# Altium integrated library AD DSP 32-Bit.IntLib: 40 symbols (part 6 of 6)
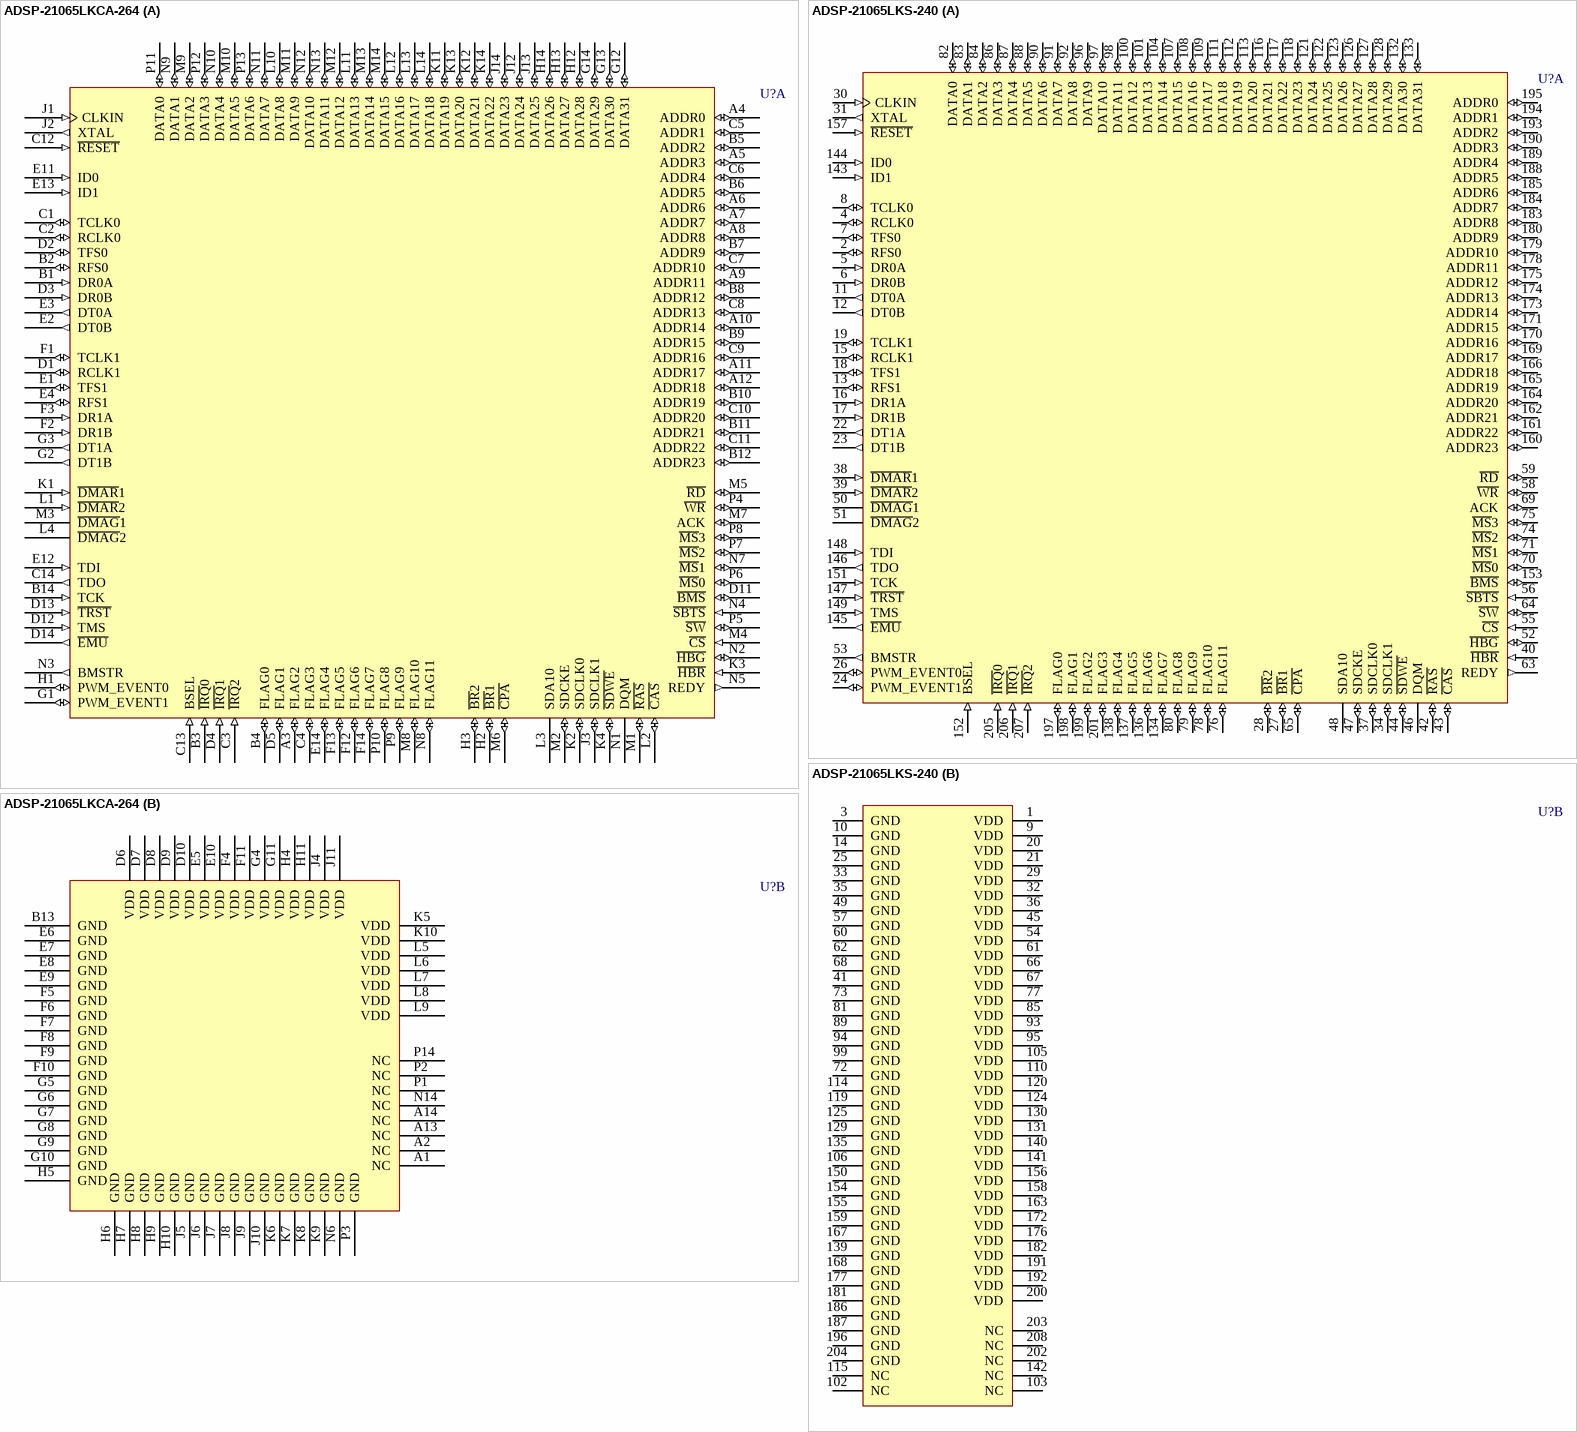
[diagram p47: symbols ADSP-21065LKCA-264 to ADSP-21065LKS-240]

## ADSP-21065LKS-240
designator U?
Low-Cost SHARC, 60 MHZ, 180 MFLOPS, 3.3V, Floating Point; Published: 24-Aug-2001; LatestRevisionDate: 13-Apr-2006; LatestRevisionNote: IPC-7351 Footprint Added.; DatasheetVersion: 2000; PackageVersion: 2000; PackageReference: MQFP208; Publisher: Altium Limited; PackageDescription: 208-Pin Shrink Quad Flat Pack 0.5 mm Pitch; ComponentLink1Description: Manufacturer Link; ComponentLink1URL: http://www.analog.com/; ComponentLink2Description: Datasheet; ComponentLink2URL: http://www.analog.com/UploadedFiles/Data_Sheets/3587558086188ADSP-21065L_c.pdf
footprint MQFP208_N (Shrink QFP, 208-Leads, Body 28x28mm, Pitch 0.5mm, IPC Medium Density)
footprint MQFP208_L (Shrink QFP, 208-Leads, Body 28x28mm, Pitch 0.5mm, IPC High Density)
footprint MQFP208_M (Shrink QFP, 208-Leads, Body 28x28mm, Pitch 0.5mm, IPC Low Density)
3D model 21065L-MQFP208 (208-Pin Shrink Quad Flat Pack 0.5 mm Pitch)
part A pins: 2 RFS0 (io), 4 RCLK0 (io), 5 DR0A (in), 6 DR0B (in), 7 TFS0 (io), 8 TCLK0 (io), 11 DT0A (out), 12 DT0B (out), 13 RFS1 (io), 15 RCLK1 (io), 16 DR1A (in), 17 DR1B (in), 18 TFS1 (io), 19 TCLK1 (io), 22 DT1A (out), 23 DT1B (out), 24 PWM_EVENT1 (io), 26 PWM_EVENT0 (io), 27 ~{BR}1 (io), 28 ~{BR}2 (io), 30 CLKIN (in), 31 XTAL (out), 34 SDCLK1 (io), 37 SDCLK0 (io), 38 ~{DMAR}1 (in), 39 ~{DMAR}2 (in), 40 ~{HBR} (in), 42 ~{RAS} (io), 43 ~{CAS} (io), 44 ~{SDWE} (io), 46 DQM (hiz), 47 SDCKE (io), 48 SDA10 (hiz), 50 ~{DMAG}1 (hiz), 51 ~{DMAG}2 (hiz), 52 ~{HBG} (io), 53 BMSTR (out), 55 ~{CS} (in), 56 ~{SBTS} (in), 58 ~{WR} (io), 59 ~{RD} (io), 63 REDY (out), 64 ~{SW} (io), 65 ~{CPA} (io), 69 ACK (io), 70 ~{MS}0 (io), 71 ~{MS}1 (io), 74 ~{MS}2 (io), 75 ~{MS}3 (io), 76 FLAG11 (io), 78 FLAG10 (io), 79 FLAG9 (io), 80 FLAG8 (io), 82 DATA0 (io), 83 DATA1 (io), 84 DATA2 (io), 86 DATA3 (io), 87 DATA4 (io), 88 DATA5 (io), 90 DATA6 (io), 91 DATA7 (io), 92 DATA8 (io), 96 DATA9 (io), 97 DATA10 (io), 98 DATA11 (io), 100 DATA12 (io), 101 DATA13 (io), 104 DATA14 (io), 107 DATA15 (io), 108 DATA16 (io), 109 DATA17 (io), 111 DATA18 (io), 112 DATA19 (io), 113 DATA20 (io), 116 DATA21 (io), 117 DATA22 (io), 118 DATA23 (io), 121 DATA24 (io), 122 DATA25 (io), 123 DATA26 (io), 126 DATA27 (io), 127 DATA28 (io), 128 DATA29 (io), 132 DATA30 (io), 133 DATA31 (io), 134 FLAG7 (io), 136 FLAG6 (io), 137 FLAG5 (io), 138 FLAG4 (io), 143 ID1 (in), 144 ID0 (in), 145 ~{EMU} (out), 146 TDO (out), 147 ~{TRST} (in), 148 TDI (in), 149 TMS (in), 151 TCK (in), 152 BSEL (in), 153 ~{BMS} (io), 157 ~{RESET} (in), 160 ADDR23 (io), 161 ADDR22 (io), 162 ADDR21 (io), 164 ADDR20 (io), 165 ADDR19 (io), 166 ADDR18 (io), 169 ADDR17 (io), 170 ADDR16 (io), 171 ADDR15 (io), 173 ADDR14 (io), 174 ADDR13 (io), 175 ADDR12 (io), 178 ADDR11 (io), 179 ADDR10 (io), 180 ADDR9 (io), 183 ADDR8 (io), 184 ADDR7 (io), 185 ADDR6 (io), 188 ADDR5 (io), 189 ADDR4 (io), 190 ADDR3 (io), 193 ADDR2 (io), 194 ADDR1 (io), 195 ADDR0 (io), 197 FLAG0 (io), 198 FLAG1 (io), 199 FLAG2 (io), 201 FLAG3 (io), 205 ~{IRQ}0 (in), 206 ~{IRQ}1 (in), 207 ~{IRQ}2 (in)
part B pins: 1 VDD (power), 3 GND (power), 9 VDD (power), 10 GND (power), 14 GND (power), 20 VDD (power), 21 VDD (power), 25 GND (power), 29 VDD (power), 32 VDD (power), 33 GND (power), 35 GND (power), 36 VDD (power), 41 GND (power), 45 VDD (power), 49 GND (power), 54 VDD (power), 57 GND (power), 60 GND (power), 61 VDD (power), 62 GND (power), 66 VDD (power), 67 VDD (power), 68 GND (power), 72 GND (power), 73 GND (power), 77 VDD (power), 81 GND (power), 85 VDD (power), 89 GND (power), 93 VDD (power), 94 GND (power), 95 VDD (power), 99 GND (power), 102 NC, 103 NC, 105 VDD (power), 106 GND (power), 110 VDD (power), 114 GND (power), 115 NC, 119 GND (power), 120 VDD (power), 124 VDD (power), 125 GND (power), 129 GND (power), 130 VDD (power), 131 VDD (power), 135 GND (power), 139 GND (power), 140 VDD (power), 141 VDD (power), 142 NC, 150 GND (power), 154 GND (power), 155 GND (power), 156 VDD (power), 158 VDD (power), 159 GND (power), 163 VDD (power), 167 GND (power), 168 GND (power), 172 VDD (power), 176 VDD (power), 177 GND (power), 181 GND (power), 182 VDD (power), 186 GND (power), 187 GND (power), 191 VDD (power), 192 VDD (power), 196 GND (power), 200 VDD (power), 202 NC, 203 NC, 204 GND (power), 208 NC

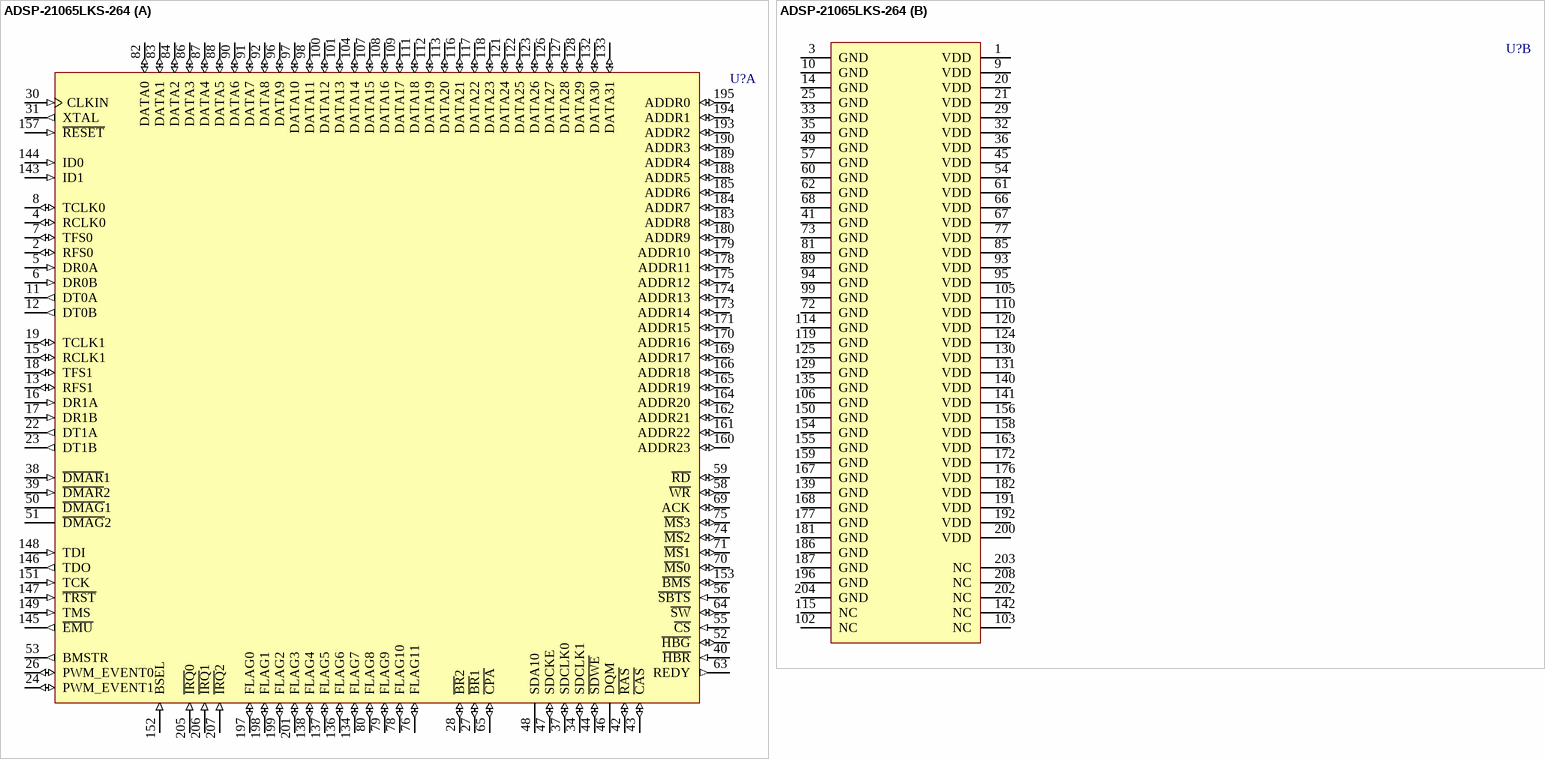
[diagram p40: symbol ADSP-21065LKS-264]

## ADSP-21065LKS-264
designator U?
Low-Cost SHARC, 60 MHZ, 180 MFLOPS, 3.3V, Floating Point; Published: 24-Aug-2001; LatestRevisionDate: 13-Apr-2006; LatestRevisionNote: IPC-7351 Footprint Added.; DatasheetVersion: 2000; PackageVersion: 2000; PackageReference: MQFP208; Publisher: Altium Limited; PackageDescription: 208-Pin Shrink Quad Flat Pack 0.5 mm Pitch; ComponentLink1Description: Manufacturer Link; ComponentLink1URL: http://www.analog.com/; ComponentLink2Description: Datasheet; ComponentLink2URL: http://www.analog.com/UploadedFiles/Data_Sheets/3587558086188ADSP-21065L_c.pdf
footprint MQFP208_N (Shrink QFP, 208-Leads, Body 28x28mm, Pitch 0.5mm, IPC Medium Density)
footprint MQFP208_L (Shrink QFP, 208-Leads, Body 28x28mm, Pitch 0.5mm, IPC High Density)
footprint MQFP208_M (Shrink QFP, 208-Leads, Body 28x28mm, Pitch 0.5mm, IPC Low Density)
3D model 21065L-MQFP208 (208-Pin Shrink Quad Flat Pack 0.5 mm Pitch)
part A pins: 2 RFS0 (io), 4 RCLK0 (io), 5 DR0A (in), 6 DR0B (in), 7 TFS0 (io), 8 TCLK0 (io), 11 DT0A (out), 12 DT0B (out), 13 RFS1 (io), 15 RCLK1 (io), 16 DR1A (in), 17 DR1B (in), 18 TFS1 (io), 19 TCLK1 (io), 22 DT1A (out), 23 DT1B (out), 24 PWM_EVENT1 (io), 26 PWM_EVENT0 (io), 27 ~{BR}1 (io), 28 ~{BR}2 (io), 30 CLKIN (in), 31 XTAL (out), 34 SDCLK1 (io), 37 SDCLK0 (io), 38 ~{DMAR}1 (in), 39 ~{DMAR}2 (in), 40 ~{HBR} (in), 42 ~{RAS} (io), 43 ~{CAS} (io), 44 ~{SDWE} (io), 46 DQM (hiz), 47 SDCKE (io), 48 SDA10 (hiz), 50 ~{DMAG}1 (hiz), 51 ~{DMAG}2 (hiz), 52 ~{HBG} (io), 53 BMSTR (out), 55 ~{CS} (in), 56 ~{SBTS} (in), 58 ~{WR} (io), 59 ~{RD} (io), 63 REDY (out), 64 ~{SW} (io), 65 ~{CPA} (io), 69 ACK (io), 70 ~{MS}0 (io), 71 ~{MS}1 (io), 74 ~{MS}2 (io), 75 ~{MS}3 (io), 76 FLAG11 (io), 78 FLAG10 (io), 79 FLAG9 (io), 80 FLAG8 (io), 82 DATA0 (io), 83 DATA1 (io), 84 DATA2 (io), 86 DATA3 (io), 87 DATA4 (io), 88 DATA5 (io), 90 DATA6 (io), 91 DATA7 (io), 92 DATA8 (io), 96 DATA9 (io), 97 DATA10 (io), 98 DATA11 (io), 100 DATA12 (io), 101 DATA13 (io), 104 DATA14 (io), 107 DATA15 (io), 108 DATA16 (io), 109 DATA17 (io), 111 DATA18 (io), 112 DATA19 (io), 113 DATA20 (io), 116 DATA21 (io), 117 DATA22 (io), 118 DATA23 (io), 121 DATA24 (io), 122 DATA25 (io), 123 DATA26 (io), 126 DATA27 (io), 127 DATA28 (io), 128 DATA29 (io), 132 DATA30 (io), 133 DATA31 (io), 134 FLAG7 (io), 136 FLAG6 (io), 137 FLAG5 (io), 138 FLAG4 (io), 143 ID1 (in), 144 ID0 (in), 145 ~{EMU} (out), 146 TDO (out), 147 ~{TRST} (in), 148 TDI (in), 149 TMS (in), 151 TCK (in), 152 BSEL (in), 153 ~{BMS} (io), 157 ~{RESET} (in), 160 ADDR23 (io), 161 ADDR22 (io), 162 ADDR21 (io), 164 ADDR20 (io), 165 ADDR19 (io), 166 ADDR18 (io), 169 ADDR17 (io), 170 ADDR16 (io), 171 ADDR15 (io), 173 ADDR14 (io), 174 ADDR13 (io), 175 ADDR12 (io), 178 ADDR11 (io), 179 ADDR10 (io), 180 ADDR9 (io), 183 ADDR8 (io), 184 ADDR7 (io), 185 ADDR6 (io), 188 ADDR5 (io), 189 ADDR4 (io), 190 ADDR3 (io), 193 ADDR2 (io), 194 ADDR1 (io), 195 ADDR0 (io), 197 FLAG0 (io), 198 FLAG1 (io), 199 FLAG2 (io), 201 FLAG3 (io), 205 ~{IRQ}0 (in), 206 ~{IRQ}1 (in), 207 ~{IRQ}2 (in)
part B pins: 1 VDD (power), 3 GND (power), 9 VDD (power), 10 GND (power), 14 GND (power), 20 VDD (power), 21 VDD (power), 25 GND (power), 29 VDD (power), 32 VDD (power), 33 GND (power), 35 GND (power), 36 VDD (power), 41 GND (power), 45 VDD (power), 49 GND (power), 54 VDD (power), 57 GND (power), 60 GND (power), 61 VDD (power), 62 GND (power), 66 VDD (power), 67 VDD (power), 68 GND (power), 72 GND (power), 73 GND (power), 77 VDD (power), 81 GND (power), 85 VDD (power), 89 GND (power), 93 VDD (power), 94 GND (power), 95 VDD (power), 99 GND (power), 102 NC, 103 NC, 105 VDD (power), 106 GND (power), 110 VDD (power), 114 GND (power), 115 NC, 119 GND (power), 120 VDD (power), 124 VDD (power), 125 GND (power), 129 GND (power), 130 VDD (power), 131 VDD (power), 135 GND (power), 139 GND (power), 140 VDD (power), 141 VDD (power), 142 NC, 150 GND (power), 154 GND (power), 155 GND (power), 156 VDD (power), 158 VDD (power), 159 GND (power), 163 VDD (power), 167 GND (power), 168 GND (power), 172 VDD (power), 176 VDD (power), 177 GND (power), 181 GND (power), 182 VDD (power), 186 GND (power), 187 GND (power), 191 VDD (power), 192 VDD (power), 196 GND (power), 200 VDD (power), 202 NC, 203 NC, 204 GND (power), 208 NC

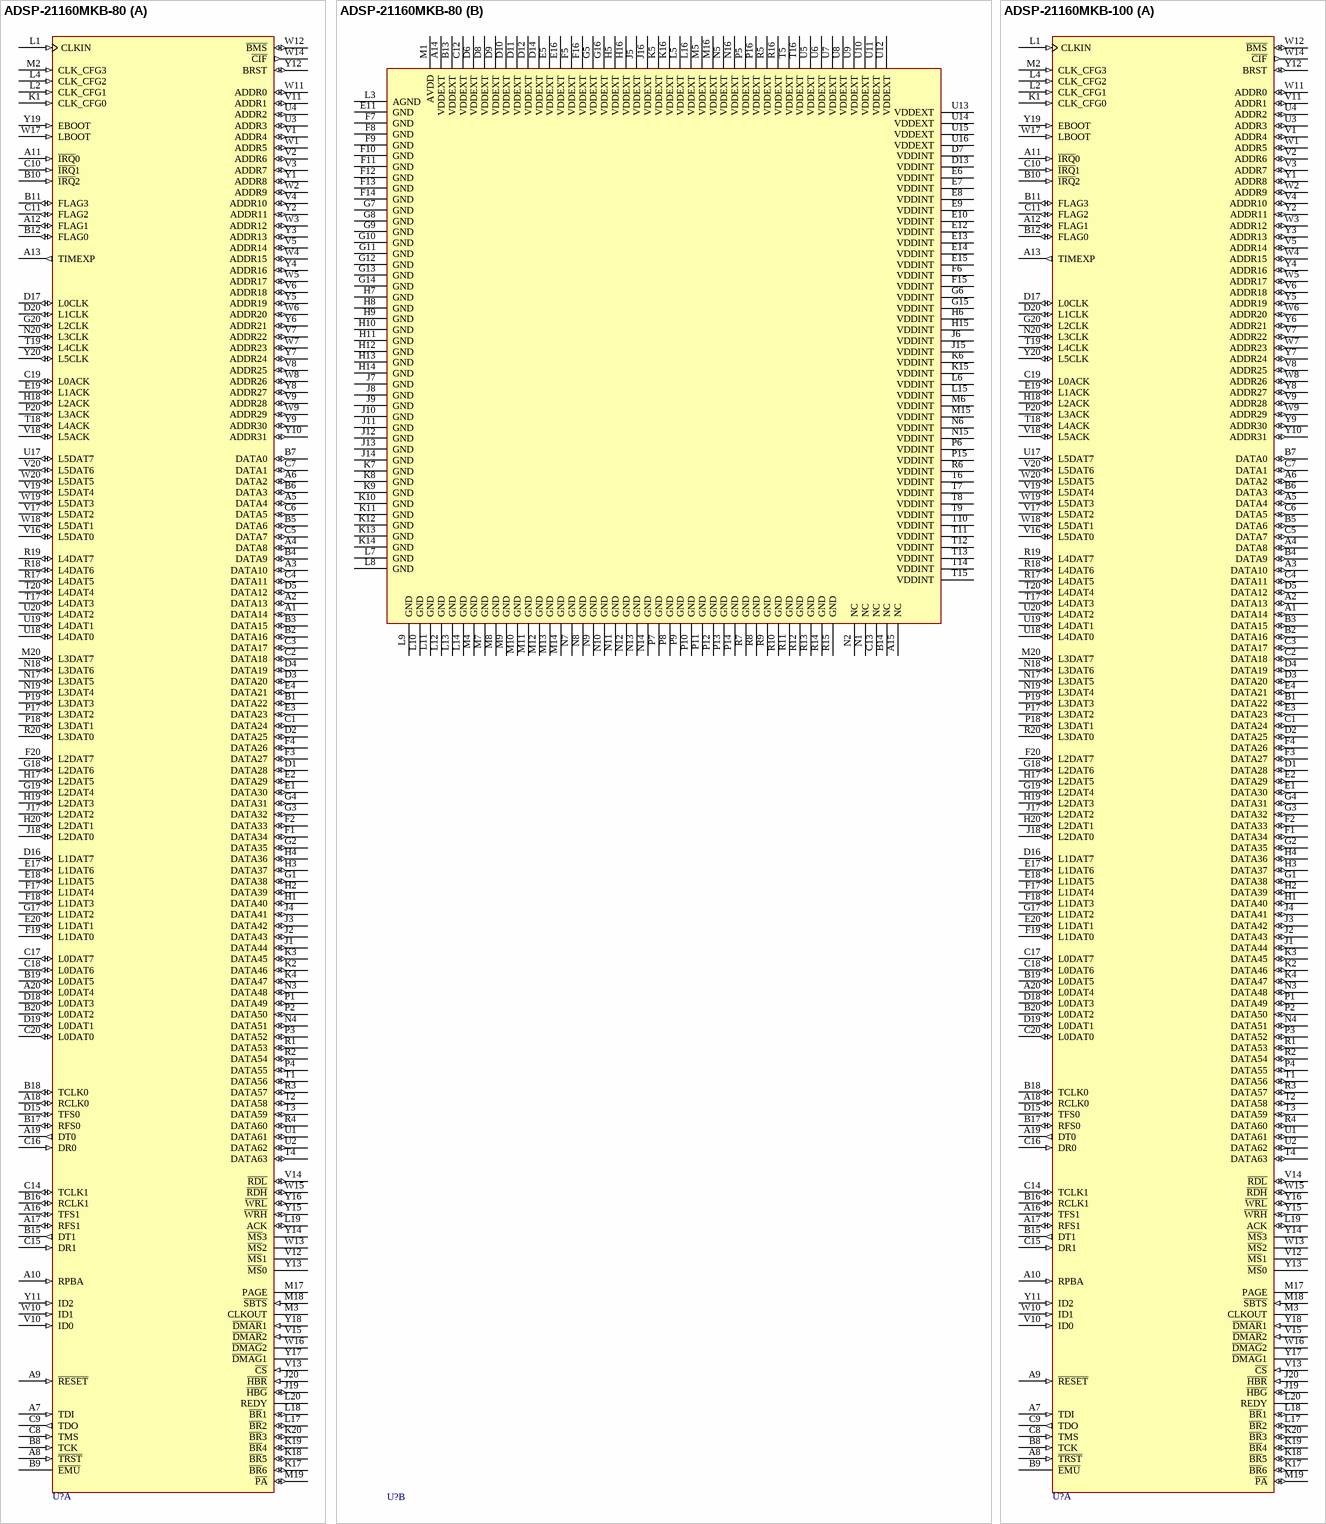
[diagram p41: symbols ADSP-21160MKB-80 to ADSP-21160MKB-100]

## ADSP-21160MKB-80
designator U?
SHARC, 100 MHZ, 600 MFLOPS, 3.3V I/O, 2.5V Core, Floating point; Published: 24-Aug-2001; LatestRevisionDate: 13-Apr-2006; LatestRevisionNote: IPC-7351 Footprint Added.; DatasheetVersion: 1998; PackageVersion: May-1999; PackageReference: PBGA400; Publisher: Altium Limited; PackageDescription: 400-Ball Ball Grid Array 1.27 mm Pitch; Code_IPC: BGA127P20X20-400; ComponentLink1Description: Manufacturer Link; ComponentLink1URL: http://www.analog.com/; ComponentLink2Description: Datasheet; ComponentLink2URL: http://www.analog.com/UploadedFiles/Data_Sheets/16366708303253250028645ADSP_21160M_0.pdf
footprint PBGA400 (BGA, 400-Leads, Body 27x27mm, Pitch 1.27mm)
3D model 21160M-PBGA400 (400-Ball Ball Grid Array 1.27 mm Pitch)
part A pins: A1 DATA14 (io), A2 DATA13 (io), A3 DATA10 (io), A4 DATA8 (io), A5 DATA4 (io), A6 DATA2 (io), A7 TDI (in), A8 ~{TRST} (in), A9 ~{RESET} (in), A10 RPBA (in), A11 ~{IRQ}0 (in), A12 FLAG1 (io), A13 TIMEXP (out), A16 TFS1 (io), A17 RFS1 (io), A18 RCLK0 (io), A19 DT0 (out), A20 L0DAT4 (io), B1 DATA22 (io), B2 DATA16 (io), B3 DATA15 (io), B4 DATA9 (io), B5 DATA6 (io), B6 DATA3 (io), B7 DATA0 (io), B8 TCK (in), B9 ~{EMU} (oc), B10 ~{IRQ}2 (in), B11 FLAG3 (io), B12 FLAG0 (io), B15 DT1 (out), B16 RCLK1 (io), B17 RFS0 (io), B18 TCLK0 (io), B19 L0DAT5 (io), B20 L0DAT2 (io), C1 DATA24 (io), C2 DATA18 (io), C3 DATA17 (io), C4 DATA11 (io), C5 DATA7 (io), C6 DATA5 (io), C7 DATA1 (io), C8 TMS (in), C9 TDO (out), C10 ~{IRQ}1 (in), C11 FLAG2 (io), C14 TCLK1 (io), C15 DR1 (in), C16 DR0 (in), C17 L0DAT7 (io), C18 L0DAT6 (io), C19 L0ACK (io), C20 L0DAT0 (io), D1 DATA28 (io), D2 DATA25 (io), D3 DATA20 (io), D4 DATA19 (io), D5 DATA12 (io), D15 TFS0 (io), D16 L1DAT7 (io), D17 L0CLK (io), D18 L0DAT3 (io), D19 L0DAT1 (io), D20 L1CLK (io), E1 DATA30 (io), E2 DATA29 (io), E3 DATA23 (io), E4 DATA21 (io), E17 L1DAT6 (io), E18 L1DAT5 (io), E19 L1ACK (io), E20 L1DAT1 (io), F1 DATA34 (io), F2 DATA33 (io), F3 DATA27 (io), F4 DATA26 (io), F17 L1DAT4 (io), F18 L1DAT3 (io), F19 L1DAT0 (io), F20 L2DAT7 (io), G1 DATA38 (io), G2 DATA35 (io), G3 DATA32 (io), G4 DATA31 (io), G17 L1DAT2 (io), G18 L2DAT6 (io), G19 L2DAT4 (io), G20 L2CLK (io), H1 DATA40 (io), H2 DATA39 (io), H3 DATA37 (io), H4 DATA36 (io), H17 L2DAT5 (io), H18 L2ACK (io), H19 L2DAT3 (io), H20 L2DAT1 (io), J1 DATA44 (io), J2 DATA43 (io), J3 DATA42 (io), J4 DATA41 (io), J17 L2DAT2 (io), J18 L2DAT0 (io), J19 ~{HBG} (io), J20 ~{HBR} (in), K1 CLK_CFG0 (in), K2 DATA46 (io), K3 DATA45 (io), K4 DATA47 (io), K17 ~{BR}6 (io), K18 ~{BR}5 (io), K19 ~{BR}4 (io), K20 ~{BR}3 (io), L1 CLKIN (in), L2 CLK_CFG1 (in), L4 CLK_CFG2 (in), L17 ~{BR}2 (io), L18 ~{BR}1 (io), L19 ACK (io), L20 REDY (oc), M2 CLK_CFG3 (in), M3 CLKOUT (hiz), M17 PAGE (hiz), M18 ~{SBTS} (in), M19 ~{PA} (io), M20 L3DAT7 (io), N3 DATA48 (io), N4 DATA51 (io), N17 L3DAT5 (io), N18 L3DAT6 (io), N19 L3DAT4 (io), N20 L3CLK (io), P1 DATA49 (io), P2 DATA50 (io), P3 DATA52 (io), P4 DATA55 (io), P17 L3DAT2 (io), P18 L3DAT1 (io), P19 L3DAT3 (io), P20 L3ACK (io), R1 DATA53 (io), R2 DATA54 (io), R3 DATA57 (io), R4 DATA60 (io), R17 L4DAT5 (io), R18 L4DAT6 (io), R19 L4DAT7 (io), R20 L3DAT0 (io), T1 DATA56 (io), T2 DATA58 (io), T3 DATA59 (io), T4 DATA63 (io), T17 L4DAT3 (io), T18 L4ACK (io), T19 L4CLK (io), T20 L4DAT4 (io), U1 DATA61 (io), U2 DATA62 (io), U3 ADDR3 (io), U4 ADDR2 (io), U17 L5DAT7 (io), U18 L4DAT0 (io), U19 L4DAT1 (io), U20 L4DAT2 (io), V1 ADDR4 (io), V2 ADDR6 (io), V3 ADDR7 (io), V4 ADDR10 (io), V5 ADDR14 (io), V6 ADDR18 (io), V7 ADDR22 (io), V8 ADDR25 (io), V9 ADDR28 (io), V10 ID0 (in), V11 ADDR1 (io), V12 ~{MS}1 (hiz), V13 ~{CS} (in), V14 ~{RDL} (io), V15 ~{DMAR}2 (in), V16 L5DAT0 (io), V17 L5DAT2 (io), V18 L5ACK (io), V19 L5DAT4 (io), V20 L5DAT6 (io), W1 ADDR5 (io), W2 ADDR9 (io), W3 ADDR12 (io), W4 ADDR15 (io), W5 ADDR17 (io), W6 ADDR20 (io), W7 ADDR23 (io), W8 ADDR26 (io), W9 ADDR29 (io), W10 ID1 (in), W11 ADDR0 (io), W12 ~{BMS} (io), W13 ~{MS}2 (hiz), W14 ~{CIF} (out), W15 ~{RDH} (io), W16 ~{DMAG}2 (hiz), W17 LBOOT (in), W18 L5DAT1 (io), W19 L5DAT3 (io), W20 L5DAT5 (io), Y1 ADDR8 (io), Y2 ADDR11 (io), Y3 ADDR13 (io), Y4 ADDR16 (io), Y5 ADDR19 (io), Y6 ADDR21 (io), Y7 ADDR24 (io), Y8 ADDR27 (io), Y9 ADDR30 (io), Y10 ADDR31 (io), Y11 ID2 (in), Y12 BRST (io), Y13 ~{MS}0 (hiz), Y14 ~{MS}3 (hiz), Y15 ~{WRH} (io), Y16 ~{WRL} (io), Y17 ~{DMAG}1 (hiz), Y18 ~{DMAR}1 (in), Y19 EBOOT (in), Y20 L5CLK (io)
part B pins: A14 VDDEXT (power), A15 NC, B13 VDDEXT (power), B14 NC, C12 VDDEXT (power), C13 NC, D6 VDDEXT (power), D7 VDDINT (power), D8 VDDEXT (power), D9 VDDEXT (power), D10 VDDEXT (power), D11 VDDEXT (power), D12 VDDEXT (power), D13 VDDINT (power), D14 VDDEXT (power), E5 VDDEXT (power), E6 VDDINT (power), E7 VDDINT (power), E8 VDDINT (power), E9 VDDINT (power), E10 VDDINT (power), E11 GND (power), E12 VDDINT (power), E13 VDDINT (power), E14 VDDINT (power), E15 VDDINT (power), E16 VDDEXT (power), F5 VDDEXT (power), F6 VDDINT (power), F7 GND (power), F8 GND (power), F9 GND (power), F10 GND (power), F11 GND (power), F12 GND (power), F13 GND (power), F14 GND (power), F15 VDDINT (power), F16 VDDEXT (power), G5 VDDEXT (power), G6 VDDINT (power), G7 GND (power), G8 GND (power), G9 GND (power), G10 GND (power), G11 GND (power), G12 GND (power), G13 GND (power), G14 GND (power), G15 VDDINT (power), G16 VDDEXT (power), H5 VDDEXT (power), H6 VDDINT (power), H7 GND (power), H8 GND (power), H9 GND (power), H10 GND (power), H11 GND (power), H12 GND (power), H13 GND (power), H14 GND (power), H15 VDDINT (power), H16 VDDEXT (power), J5 VDDEXT (power), J6 VDDINT (power), J7 GND (power), J8 GND (power), J9 GND (power), J10 GND (power), J11 GND (power), J12 GND (power), J13 GND (power), J14 GND (power), J15 VDDINT (power), J16 VDDEXT (power), K5 VDDEXT (power), K6 VDDINT (power), K7 GND (power), K8 GND (power), K9 GND (power), K10 GND (power), K11 GND (power), K12 GND (power), K13 GND (power), K14 GND (power), K15 VDDINT (power), K16 VDDEXT (power), L3 AGND (power), L5 VDDEXT (power), L6 VDDINT (power), L7 GND (power), L8 GND (power), L9 GND (power), L10 GND (power), L11 GND (power), L12 GND (power), L13 GND (power), L14 GND (power), L15 VDDINT (power), L16 VDDEXT (power), M1 AVDD (power), M4 GND (power), M5 VDDEXT (power), M6 VDDINT (power), M7 GND (power), M8 GND (power), M9 GND (power), M10 GND (power), M11 GND (power), M12 GND (power), M13 GND (power), M14 GND (power), M15 VDDINT (power), M16 VDDEXT (power), N1 NC, N2 NC, N5 VDDEXT (power), N6 VDDINT (power), N7 GND (power), N8 GND (power), N9 GND (power), N10 GND (power), N11 GND (power), N12 GND (power), N13 GND (power), N14 GND (power), N15 VDDINT (power), N16 VDDEXT (power), P5 VDDEXT (power), P6 VDDINT (power), P7 GND (power), P8 GND (power), P9 GND (power), P10 GND (power), P11 GND (power), P12 GND (power), P13 GND (power), P14 GND (power), P15 VDDINT (power), P16 VDDEXT (power), R5 VDDEXT (power), R6 VDDINT (power), R7 GND (power), R8 GND (power), R9 GND (power), R10 GND (power), R11 GND (power), R12 GND (power), R13 GND (power), R14 GND (power), R15 GND (power), R16 VDDEXT (power), T5 VDDEXT (power), T6 VDDINT (power), T7 VDDINT (power), T8 VDDINT (power), T9 VDDINT (power), T10 VDDINT (power), T11 VDDINT (power), T12 VDDINT (power), T13 VDDINT (power), T14 VDDINT (power), T15 VDDINT (power), T16 VDDEXT (power), U5 VDDEXT (power), U6 VDDEXT (power), U7 VDDEXT (power), U8 VDDEXT (power), U9 VDDEXT (power), U10 VDDEXT (power), U11 VDDEXT (power), U12 VDDEXT (power), U13 VDDEXT (power), U14 VDDEXT (power), U15 VDDEXT (power), U16 VDDEXT (power)

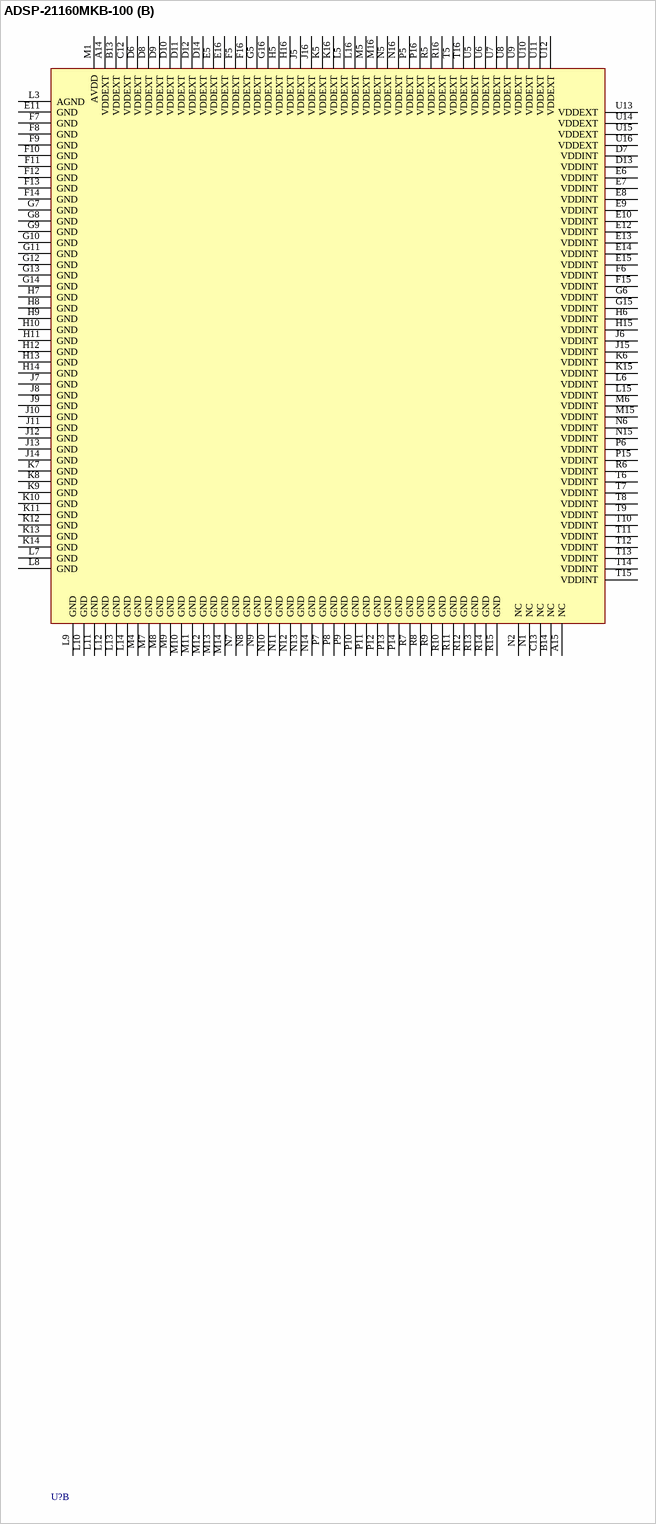
[diagram p42: symbol ADSP-21160MKB-100]

## ADSP-21160MKB-100
designator U?
SHARC, 100 MHZ, 600 MFLOPS, 3.3V I/O, 2.5V Core, Floating point; Published: 24-Aug-2001; LatestRevisionDate: 13-Apr-2006; LatestRevisionNote: IPC-7351 Footprint Added.; DatasheetVersion: 1998; PackageVersion: May-1999; PackageReference: PBGA400; Publisher: Altium Limited; PackageDescription: 400-Ball Ball Grid Array 1.27 mm Pitch; Code_IPC: BGA127P20X20-400; ComponentLink1Description: Manufacturer Link; ComponentLink1URL: http://www.analog.com/; ComponentLink2Description: Datasheet; ComponentLink2URL: http://www.analog.com/UploadedFiles/Data_Sheets/16366708303253250028645ADSP_21160M_0.pdf
footprint PBGA400 (BGA, 400-Leads, Body 27x27mm, Pitch 1.27mm)
3D model 21160M-PBGA400 (400-Ball Ball Grid Array 1.27 mm Pitch)
part A pins: A1 DATA14 (io), A2 DATA13 (io), A3 DATA10 (io), A4 DATA8 (io), A5 DATA4 (io), A6 DATA2 (io), A7 TDI (in), A8 ~{TRST} (in), A9 ~{RESET} (in), A10 RPBA (in), A11 ~{IRQ}0 (in), A12 FLAG1 (io), A13 TIMEXP (out), A16 TFS1 (io), A17 RFS1 (io), A18 RCLK0 (io), A19 DT0 (out), A20 L0DAT4 (io), B1 DATA22 (io), B2 DATA16 (io), B3 DATA15 (io), B4 DATA9 (io), B5 DATA6 (io), B6 DATA3 (io), B7 DATA0 (io), B8 TCK (in), B9 ~{EMU} (oc), B10 ~{IRQ}2 (in), B11 FLAG3 (io), B12 FLAG0 (io), B15 DT1 (out), B16 RCLK1 (io), B17 RFS0 (io), B18 TCLK0 (io), B19 L0DAT5 (io), B20 L0DAT2 (io), C1 DATA24 (io), C2 DATA18 (io), C3 DATA17 (io), C4 DATA11 (io), C5 DATA7 (io), C6 DATA5 (io), C7 DATA1 (io), C8 TMS (in), C9 TDO (out), C10 ~{IRQ}1 (in), C11 FLAG2 (io), C14 TCLK1 (io), C15 DR1 (in), C16 DR0 (in), C17 L0DAT7 (io), C18 L0DAT6 (io), C19 L0ACK (io), C20 L0DAT0 (io), D1 DATA28 (io), D2 DATA25 (io), D3 DATA20 (io), D4 DATA19 (io), D5 DATA12 (io), D15 TFS0 (io), D16 L1DAT7 (io), D17 L0CLK (io), D18 L0DAT3 (io), D19 L0DAT1 (io), D20 L1CLK (io), E1 DATA30 (io), E2 DATA29 (io), E3 DATA23 (io), E4 DATA21 (io), E17 L1DAT6 (io), E18 L1DAT5 (io), E19 L1ACK (io), E20 L1DAT1 (io), F1 DATA34 (io), F2 DATA33 (io), F3 DATA27 (io), F4 DATA26 (io), F17 L1DAT4 (io), F18 L1DAT3 (io), F19 L1DAT0 (io), F20 L2DAT7 (io), G1 DATA38 (io), G2 DATA35 (io), G3 DATA32 (io), G4 DATA31 (io), G17 L1DAT2 (io), G18 L2DAT6 (io), G19 L2DAT4 (io), G20 L2CLK (io), H1 DATA40 (io), H2 DATA39 (io), H3 DATA37 (io), H4 DATA36 (io), H17 L2DAT5 (io), H18 L2ACK (io), H19 L2DAT3 (io), H20 L2DAT1 (io), J1 DATA44 (io), J2 DATA43 (io), J3 DATA42 (io), J4 DATA41 (io), J17 L2DAT2 (io), J18 L2DAT0 (io), J19 ~{HBG} (io), J20 ~{HBR} (in), K1 CLK_CFG0 (in), K2 DATA46 (io), K3 DATA45 (io), K4 DATA47 (io), K17 ~{BR}6 (io), K18 ~{BR}5 (io), K19 ~{BR}4 (io), K20 ~{BR}3 (io), L1 CLKIN (in), L2 CLK_CFG1 (in), L4 CLK_CFG2 (in), L17 ~{BR}2 (io), L18 ~{BR}1 (io), L19 ACK (io), L20 REDY (oc), M2 CLK_CFG3 (in), M3 CLKOUT (hiz), M17 PAGE (hiz), M18 ~{SBTS} (in), M19 ~{PA} (io), M20 L3DAT7 (io), N3 DATA48 (io), N4 DATA51 (io), N17 L3DAT5 (io), N18 L3DAT6 (io), N19 L3DAT4 (io), N20 L3CLK (io), P1 DATA49 (io), P2 DATA50 (io), P3 DATA52 (io), P4 DATA55 (io), P17 L3DAT2 (io), P18 L3DAT1 (io), P19 L3DAT3 (io), P20 L3ACK (io), R1 DATA53 (io), R2 DATA54 (io), R3 DATA57 (io), R4 DATA60 (io), R17 L4DAT5 (io), R18 L4DAT6 (io), R19 L4DAT7 (io), R20 L3DAT0 (io), T1 DATA56 (io), T2 DATA58 (io), T3 DATA59 (io), T4 DATA63 (io), T17 L4DAT3 (io), T18 L4ACK (io), T19 L4CLK (io), T20 L4DAT4 (io), U1 DATA61 (io), U2 DATA62 (io), U3 ADDR3 (io), U4 ADDR2 (io), U17 L5DAT7 (io), U18 L4DAT0 (io), U19 L4DAT1 (io), U20 L4DAT2 (io), V1 ADDR4 (io), V2 ADDR6 (io), V3 ADDR7 (io), V4 ADDR10 (io), V5 ADDR14 (io), V6 ADDR18 (io), V7 ADDR22 (io), V8 ADDR25 (io), V9 ADDR28 (io), V10 ID0 (in), V11 ADDR1 (io), V12 ~{MS}1 (hiz), V13 ~{CS} (in), V14 ~{RDL} (io), V15 ~{DMAR}2 (in), V16 L5DAT0 (io), V17 L5DAT2 (io), V18 L5ACK (io), V19 L5DAT4 (io), V20 L5DAT6 (io), W1 ADDR5 (io), W2 ADDR9 (io), W3 ADDR12 (io), W4 ADDR15 (io), W5 ADDR17 (io), W6 ADDR20 (io), W7 ADDR23 (io), W8 ADDR26 (io), W9 ADDR29 (io), W10 ID1 (in), W11 ADDR0 (io), W12 ~{BMS} (io), W13 ~{MS}2 (hiz), W14 ~{CIF} (out), W15 ~{RDH} (io), W16 ~{DMAG}2 (hiz), W17 LBOOT (in), W18 L5DAT1 (io), W19 L5DAT3 (io), W20 L5DAT5 (io), Y1 ADDR8 (io), Y2 ADDR11 (io), Y3 ADDR13 (io), Y4 ADDR16 (io), Y5 ADDR19 (io), Y6 ADDR21 (io), Y7 ADDR24 (io), Y8 ADDR27 (io), Y9 ADDR30 (io), Y10 ADDR31 (io), Y11 ID2 (in), Y12 BRST (io), Y13 ~{MS}0 (hiz), Y14 ~{MS}3 (hiz), Y15 ~{WRH} (io), Y16 ~{WRL} (io), Y17 ~{DMAG}1 (hiz), Y18 ~{DMAR}1 (in), Y19 EBOOT (in), Y20 L5CLK (io)
part B pins: A14 VDDEXT (power), A15 NC, B13 VDDEXT (power), B14 NC, C12 VDDEXT (power), C13 NC, D6 VDDEXT (power), D7 VDDINT (power), D8 VDDEXT (power), D9 VDDEXT (power), D10 VDDEXT (power), D11 VDDEXT (power), D12 VDDEXT (power), D13 VDDINT (power), D14 VDDEXT (power), E5 VDDEXT (power), E6 VDDINT (power), E7 VDDINT (power), E8 VDDINT (power), E9 VDDINT (power), E10 VDDINT (power), E11 GND (power), E12 VDDINT (power), E13 VDDINT (power), E14 VDDINT (power), E15 VDDINT (power), E16 VDDEXT (power), F5 VDDEXT (power), F6 VDDINT (power), F7 GND (power), F8 GND (power), F9 GND (power), F10 GND (power), F11 GND (power), F12 GND (power), F13 GND (power), F14 GND (power), F15 VDDINT (power), F16 VDDEXT (power), G5 VDDEXT (power), G6 VDDINT (power), G7 GND (power), G8 GND (power), G9 GND (power), G10 GND (power), G11 GND (power), G12 GND (power), G13 GND (power), G14 GND (power), G15 VDDINT (power), G16 VDDEXT (power), H5 VDDEXT (power), H6 VDDINT (power), H7 GND (power), H8 GND (power), H9 GND (power), H10 GND (power), H11 GND (power), H12 GND (power), H13 GND (power), H14 GND (power), H15 VDDINT (power), H16 VDDEXT (power), J5 VDDEXT (power), J6 VDDINT (power), J7 GND (power), J8 GND (power), J9 GND (power), J10 GND (power), J11 GND (power), J12 GND (power), J13 GND (power), J14 GND (power), J15 VDDINT (power), J16 VDDEXT (power), K5 VDDEXT (power), K6 VDDINT (power), K7 GND (power), K8 GND (power), K9 GND (power), K10 GND (power), K11 GND (power), K12 GND (power), K13 GND (power), K14 GND (power), K15 VDDINT (power), K16 VDDEXT (power), L3 AGND (power), L5 VDDEXT (power), L6 VDDINT (power), L7 GND (power), L8 GND (power), L9 GND (power), L10 GND (power), L11 GND (power), L12 GND (power), L13 GND (power), L14 GND (power), L15 VDDINT (power), L16 VDDEXT (power), M1 AVDD (power), M4 GND (power), M5 VDDEXT (power), M6 VDDINT (power), M7 GND (power), M8 GND (power), M9 GND (power), M10 GND (power), M11 GND (power), M12 GND (power), M13 GND (power), M14 GND (power), M15 VDDINT (power), M16 VDDEXT (power), N1 NC, N2 NC, N5 VDDEXT (power), N6 VDDINT (power), N7 GND (power), N8 GND (power), N9 GND (power), N10 GND (power), N11 GND (power), N12 GND (power), N13 GND (power), N14 GND (power), N15 VDDINT (power), N16 VDDEXT (power), P5 VDDEXT (power), P6 VDDINT (power), P7 GND (power), P8 GND (power), P9 GND (power), P10 GND (power), P11 GND (power), P12 GND (power), P13 GND (power), P14 GND (power), P15 VDDINT (power), P16 VDDEXT (power), R5 VDDEXT (power), R6 VDDINT (power), R7 GND (power), R8 GND (power), R9 GND (power), R10 GND (power), R11 GND (power), R12 GND (power), R13 GND (power), R14 GND (power), R15 GND (power), R16 VDDEXT (power), T5 VDDEXT (power), T6 VDDINT (power), T7 VDDINT (power), T8 VDDINT (power), T9 VDDINT (power), T10 VDDINT (power), T11 VDDINT (power), T12 VDDINT (power), T13 VDDINT (power), T14 VDDINT (power), T15 VDDINT (power), T16 VDDEXT (power), U5 VDDEXT (power), U6 VDDEXT (power), U7 VDDEXT (power), U8 VDDEXT (power), U9 VDDEXT (power), U10 VDDEXT (power), U11 VDDEXT (power), U12 VDDEXT (power), U13 VDDEXT (power), U14 VDDEXT (power), U15 VDDEXT (power), U16 VDDEXT (power)